# Altium footprint library MCP25xx.PcbLib: 3 footprints
Each footprint in its own frame and in the unit in brackets; x right, y up, seen from the top. Pads: shape width x height; smd on the part's side, far side on the other; paste and mask are expansions set on the pad; w line width, h text height; cw(c..) or ccw(c..) is an arc to the next point about the centre after c.
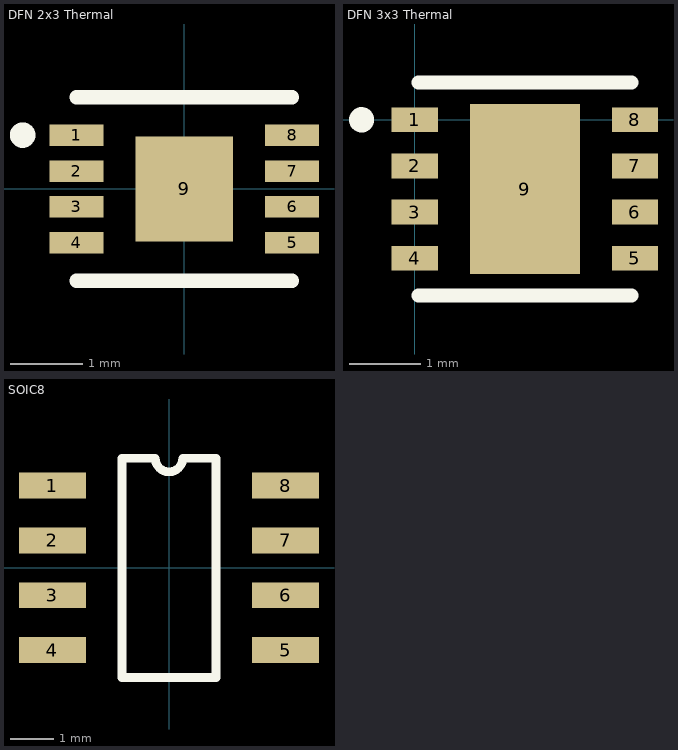
[diagram p0: the footprints below, top view; thin cyan lines are the x and y axes]

## DFN 2x3 Thermal [mm]
pads (9):
  rect 0.75x0.3 smd: 1(-1.5,0.75) 2(-1.5,0.25) 3(-1.5,-0.25) 4(-1.5,-0.75) 5(1.5,-0.75) 6(1.5,-0.25) 7(1.5,0.25) 8(1.5,0.75)
  rect 1.36x1.46 smd: 9(0,0)
Top Overlay:
  circle w0.254: c-2.25,0.75 r0.05
  lines w0.2: -1.5,-1.275 1.5,-1.275 ; -1.5,1.275 1.5,1.275
3D body: height 0.75, standoff 0, extent -1.5,-1 1.5,1

## DFN 3x3 Thermal [mm]
pads (9):
  rect 0.65x0.35 smd: 1(0,0) 2(0,-0.65) 3(0,-1.3) 4(0,-1.95) 5(3.1,-1.95) 6(3.1,-1.3) 7(3.1,-0.65) 8(3.1,0)
  rect 1.55x2.4 smd: 9(1.55,-0.975)
Top Overlay:
  circle w0.254: c-0.75,0 r0.05
  lines w0.2: 0.05,-2.475 3.05,-2.475 ; 0.05,0.525 3.05,0.525
3D body: height 0.9, standoff 0, extent 0.05,-2.475 3.05,0.525

## SOIC8 [mm]
pads (8):
  rect 1.55x0.6 smd: 1(-2.7,1.905) 2(-2.7,0.635) 3(-2.7,-0.635) 4(-2.7,-1.905) 5(2.7,-1.905) 6(2.7,-0.635) 7(2.7,0.635) 8(2.7,1.905)
Top Overlay:
  lines w0.2: -1.09,-2.54 1.09,-2.54 1.09,2.54 0.318,2.54 cw(c0,2.54) -0.318,2.54 -1.09,2.54 -1.09,-2.54
3D body: height 1.75, standoff 0, extent -1.091,-2.54 1.091,2.541
3D body: height 0.51, standoff 0, extent -3.142,1.651 -1.049,2.159
3D body: height 0.51, standoff 0, extent -3.142,0.381 -1.049,0.889
3D body: height 0.51, standoff 0, extent -3.142,-0.889 -1.049,-0.381
3D body: height 0.51, standoff 0, extent -3.142,-2.159 -1.049,-1.651
3D body: height 0.51, standoff 0, extent 1.049,-2.159 3.142,-1.651
3D body: height 0.51, standoff 0, extent 1.049,-0.889 3.142,-0.381
3D body: height 0.51, standoff 0, extent 1.049,0.381 3.142,0.889
3D body: height 0.51, standoff 0, extent 1.049,1.651 3.142,2.159